# EAGLE library part EC-H84 (library radiotubes)
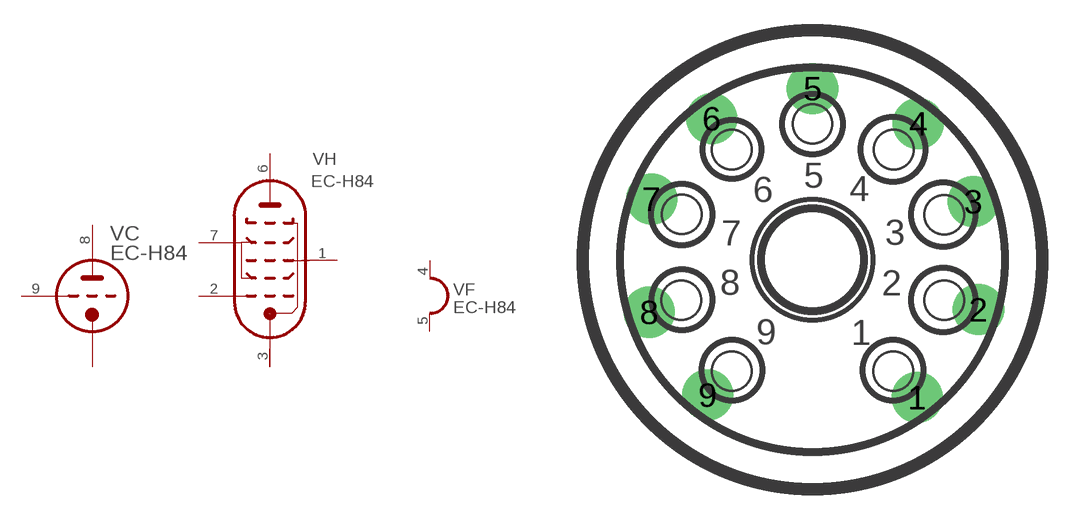
[diagram p85: symbol with the pads of NOVAL; footprint NOVAL]

Designator prefix V; gates F=HEATER_1 H=HEPTODE C=TRIO_B

## EC-H84  [NOVAL]
1  H:HG3  pas
2  H:HG1  pas
3  H:HK  pas
4  F:H1  pas
5  F:H2  pas
6  H:HA  pas
7  H:HSG  pas
8  C:TA  pas
9  C:TG  pas

## Footprint NOVAL (pad centres in mm)
drill 1.422 pad 2.54: 1 5.207,-6.858; 2 8.254,-2.484; 3 8.004,2.893; 4 5.258,6.77; 5 0,8.524; 6 -5.004,7.024; 7 -8.004,3.02; 8 -8.127,-2.611; 9 -5.207,-6.731